# Altium schematic symbol library IC.Power.SchLib: 21 symbols
Pins are listed as number, name and electrical type; pins without a type are passive.

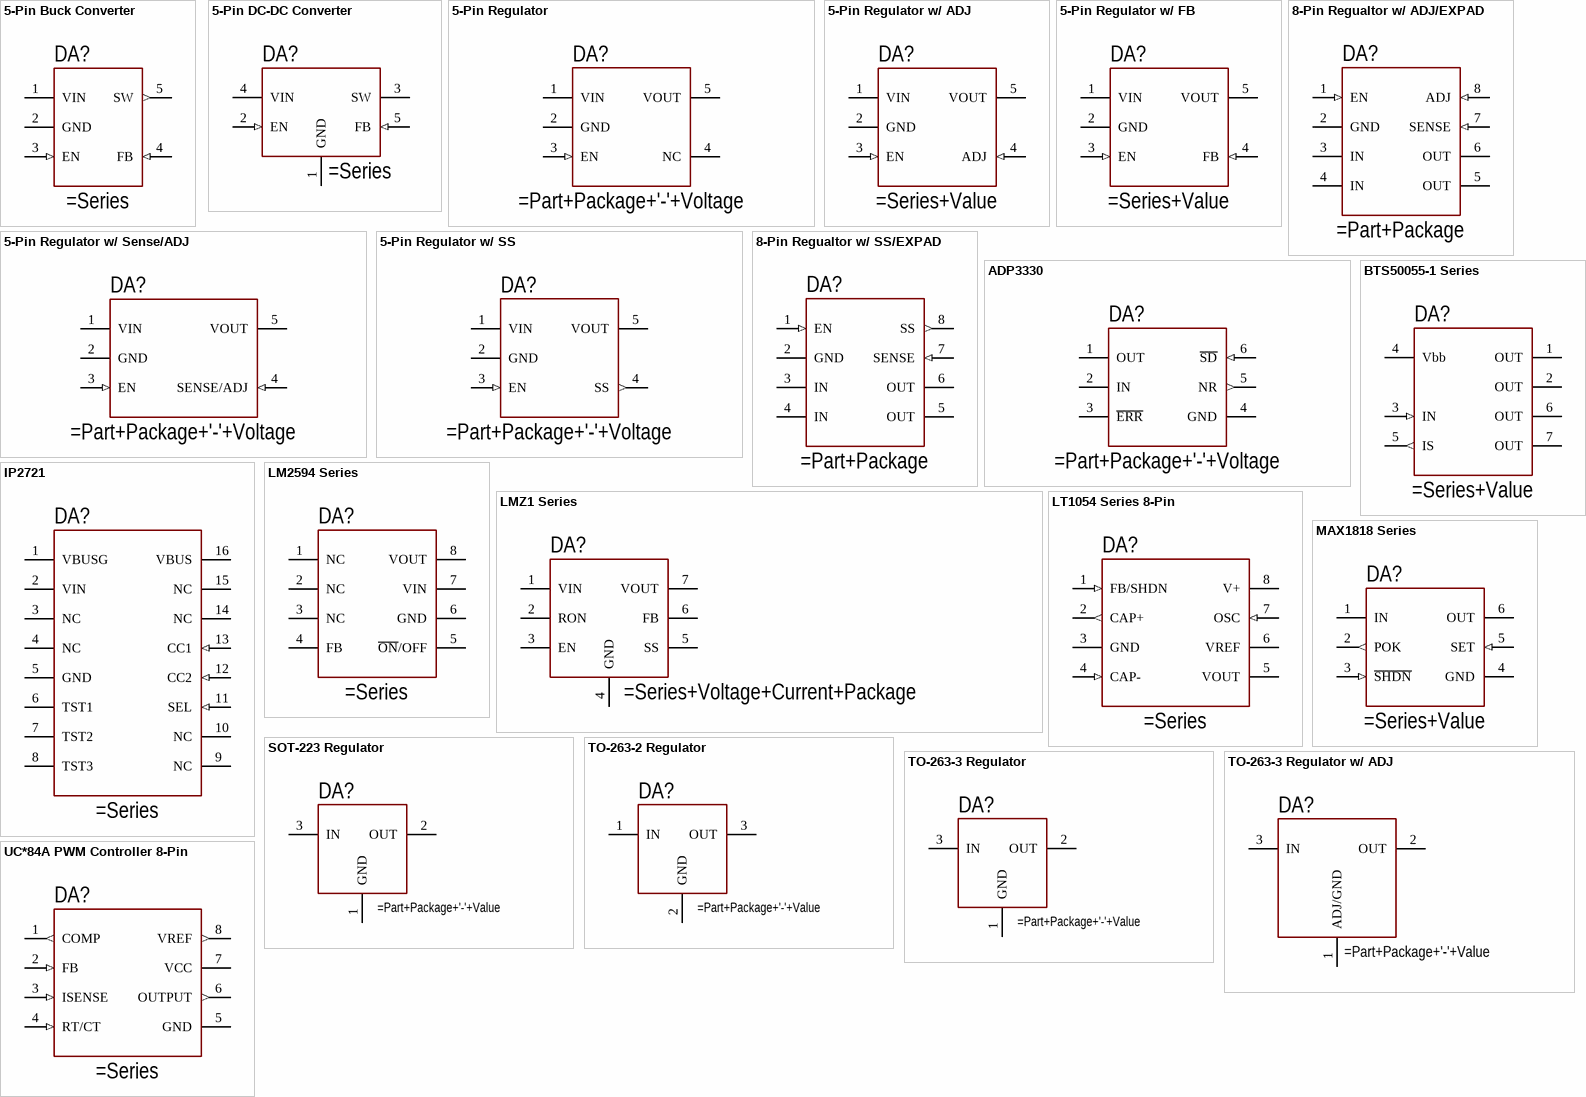
[diagram p0: symbols 5-Pin Buck Converter to UC*84A PWM Controller 8-Pin]

## 5-Pin Buck Converter
designator DA?
Buck DC-DC Converter, 5-Pin Package
pins: 1 VIN, 2 GND, 3 EN (in), 4 FB (in), 5 SW (out)

## 5-Pin DC-DC Converter
designator DA?
5-Pin DC-DC Converter
pins: 1 GND, 2 EN (in), 3 SW, 4 VIN, 5 FB (in)

## 5-Pin Regulator
designator DA?
Fixed Linear Regulator
pins: 1 VIN, 2 GND, 3 EN (in), 4 NC, 5 VOUT

## 5-Pin Regulator w/ ADJ
designator DA?
Linear Regulator with Feedback input
pins: 1 VIN, 2 GND, 3 EN (in), 4 ADJ (in), 5 VOUT

## 5-Pin Regulator w/ FB
designator DA?
Linear Regulator with Feedback input
pins: 1 VIN, 2 GND, 3 EN (in), 4 FB (in), 5 VOUT

## 5-Pin Regulator w/ Sense/ADJ
designator DA?
Fixed Linear Regulator with Sense Pin and Adjustable Output
pins: 1 VIN, 2 GND, 3 EN (in), 4 SENSE/ADJ (in), 5 VOUT

## 5-Pin Regulator w/ SS
designator DA?
Fixed Linear Regulator with Soft Start
pins: 1 VIN, 2 GND, 3 EN (in), 4 SS (out), 5 VOUT

## 8-Pin Regualtor w/ ADJ/EXPAD
designator DA?
Adjustable Linear Regulator, 8 Leads
pins: 1 EN (in), 2 GND, 3 IN, 4 IN, 5 OUT, 6 OUT, 7 SENSE (in), 8 ADJ (in), PAD GND (power) hidden to GND

## 8-Pin Regualtor w/ SS/EXPAD
designator DA?
Linear Regulator with Soft Start, 8 Leads
pins: 1 EN (in), 2 GND, 3 IN, 4 IN, 5 OUT, 6 OUT, 7 SENSE (in), 8 SS (out), PAD GND (power) hidden to GND

## ADP3330
designator DA?
High Accuracy, Ultralow IQ, 200 mA, SOT-23, anyCAP Low Dropout Regulator
pins: 1 OUT, 2 IN, 3 ~{ERR}, 4 GND, 5 NR (out), 6 ~{SD} (in)

## BTS50055-1 Series
designator DA?
Smart Highside High Current Power Switch
pins: 1 OUT, 2 OUT, 3 IN (in), 4 Vbb, 5 IS (out), 6 OUT, 7 OUT

## IP2721
designator DA?
TYPE-C/PD2.0/PD3.0 Physical Layer IC for USB TYPE-C Input Interfaces
pins: 1 VBUSG, 2 VIN, 3 NC, 4 NC, 5 GND, 6 TST1, 7 TST2, 8 TST3, 9 NC, 10 NC, 11 SEL (in), 12 CC2 (in), 13 CC1 (in), 14 NC, 15 NC, 16 VBUS

## LM2594 Series
designator DA?
DC-DC Power Converter
pins: 1 NC, 2 NC, 3 NC, 4 FB, 5 ~{ON}/OFF, 6 GND, 7 VIN, 8 VOUT

## LMZ1 Series
designator DA?
SIMPLE SWITCHER® 6-V to 42-V, 1-A to 3-A Power Module in Leaded SMT-TO Package
pins: 1 VIN, 2 RON, 3 EN, 4 GND, 5 SS, 6 FB, 7 VOUT, PAD GND hidden to GND

## LT1054 Series 8-Pin
designator DA?
Switched-Capacitor Voltage Converter with Regulator
pins: 1 FB/SHDN (in), 2 CAP+ (out), 3 GND, 4 CAP- (in), 5 VOUT, 6 VREF, 7 OSC (in), 8 V+

## MAX1818 Series
designator DA?
MAX1818 Series LDO
pins: 1 IN, 2 POK (out), 3 ~{SHDN} (in), 4 GND, 5 SET (in), 6 OUT

## SOT-223 Regulator
designator DA?
Fixed Linear Regulator
pins: 1 GND, 2 OUT, 3 IN

## TO-263-2 Regulator
designator DA?
Fixed Linear Regulator
pins: 1 IN, 2 GND, 3 OUT

## TO-263-3 Regulator
designator DA?
Fixed Linear Regulator
pins: 1 GND, 2 OUT, 3 IN

## TO-263-3 Regulator w/ ADJ
designator DA?
Adjustable Linear Regulator
pins: 1 ADJ/GND, 2 OUT, 3 IN

## UC*84A PWM Controller 8-Pin
designator DA?
8-Pin UC*84A PWM Controller Schematic Symbol
pins: 1 COMP (out), 2 FB (in), 3 ISENSE (in), 4 RT/CT (in), 5 GND, 6 OUTPUT (out), 7 VCC, 8 VREF (out)